# Altium footprint library Connector, S10B-PADSS-1.PcbLib: 1 footprints
Each footprint in its own frame and in the unit in brackets; x right, y up, seen from the top. Pads: shape width x height; smd on the part's side, far side on the other; paste and mask are expansions set on the pad; w line width, h text height; cw(c..) or ccw(c..) is an arc to the next point about the centre after c.
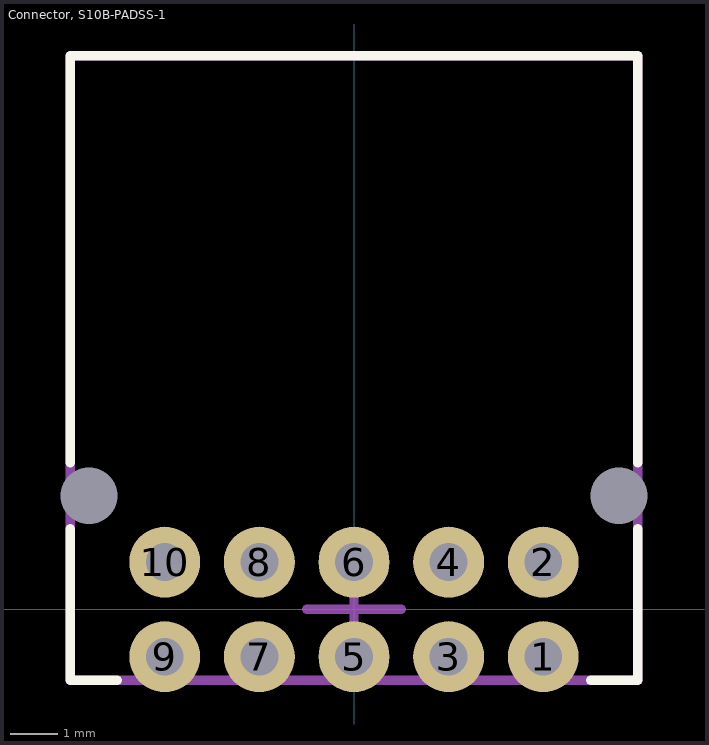
[diagram p0: the footprint, top view; thin cyan lines are the x and y axes]

## Connector, S10B-PADSS-1 [mm] "Connector, S10B-PADSS-1"
height 10.5
pads (12):
  round 1.5 hole 0.8 mask+0.05: 1(4,-1) 2(4,1) 3(2,-1) 4(2,1) 5(0,-1) 6(0,1) 7(-2,-1) 8(-2,1) 9(-4,-1) 10(-4,1)
  round 0 hole 1.2 unplated mask+0.05: 8-VIN(-5.6,2.4) 8-VIN(5.6,2.4)
Top Overlay:
  lines w0.2: -6,1.7 -6,-1.5 -5,-1.5 ; -6,3.1 -6,11.7 6,11.7 6,3.1 ; 5,-1.5 6,-1.5 6,1.7
Top Assembly:
  lines w0.2: -6,-1.5 6,-1.5 6,11.7 -6,11.7 -6,-1.5
Top Designator:
  text ".Designator" at -4,5.375 h2
Top Component Center:
  lines w0.2: -1,0 1,0 ; 0,-1 0,1
3D body "JST - PA -2x5 - Through Hole, Side Entry - S10B-PADSS-1.step": height 10.5, standoff -3, extent -6,-1.5 6,11.7